# EAGLE library part INA821 (library ICs)
INA821 35-µV Offset, 7-nV/√Hz Noise, Low-Power, Precision Instrumentation Amplifier
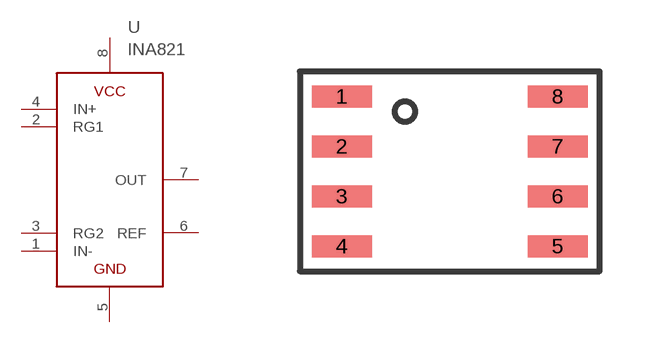
[diagram p223: symbol with the pads of SO8; footprint SO8]

Designator prefix U

## INA821ID (DIGIKEY: 296-53404-ND; HEIGHT: 2; PRICE_PER: 4.74; VALUE: INA821)  [SO8]
1  IN-
2  RG1
3  RG2
4  IN+
5  GND
6  REF
7  OUT
8  VCC

## Footprint SO8 (pad centres in mm)
smd 1.5 x 0.55: 1 -2.7,1.875; 2 -2.7,0.625; 3 -2.7,-0.625; 4 -2.7,-1.875; 5 2.7,-1.875; 6 2.7,-0.625; 7 2.7,0.625; 8 2.7,1.875